# EAGLE library part 4.3INCHRGBLCDMODULE (library waveshare)
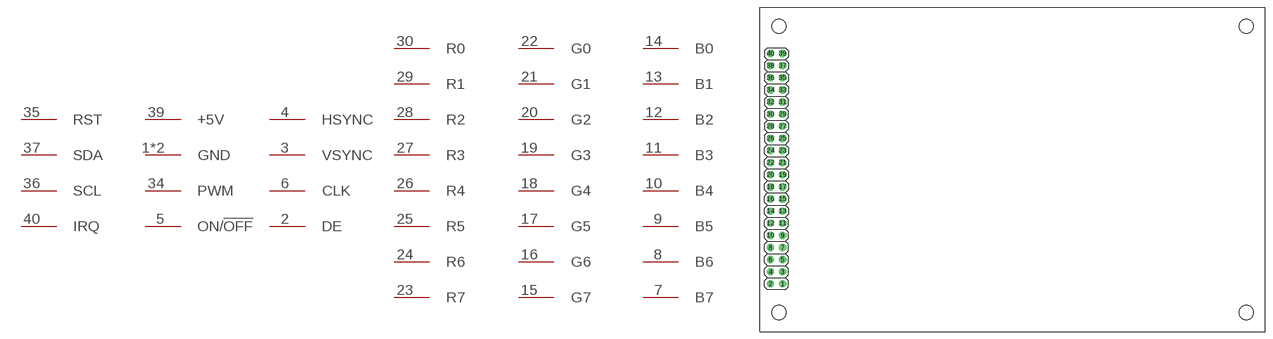
[diagram p2: symbol with the pads of 4.3"LCD; footprint 4.3"LCD]

Designator prefix DISP; gates G$1=DISP_PWR G$2=DISP_CTRL G$3=DISP_BACKLIGHT G$4=DISP_BUS_R G$5=DISP_BUS_G G$6=DISP_BUS_B G$7=DISP_TOUCH

## 4.3INCHRGBLCDMODULE  [4.3"LCD]
1  G$1:GND
2  G$2:DE
3  G$2:VSYNC
4  G$2:HSYNC
5  G$3:ON/!OFF!
6  G$2:CLK
7  G$6:B7
8  G$6:B6
9  G$6:B5
10  G$6:B4
11  G$6:B3
12  G$6:B2
13  G$6:B1
14  G$6:B0
15  G$5:G7
16  G$5:G6
17  G$5:G5
18  G$5:G4
19  G$5:G3
20  G$5:G2
21  G$5:G1
22  G$5:G0
23  G$4:R7
24  G$4:R6
25  G$4:R5
26  G$4:R4
27  G$4:R3
28  G$4:R2
29  G$4:R1
30  G$4:R0
33  G$1:GND
34  G$3:PWM
35  G$7:RST
36  G$7:SCL
37  G$7:SDA
39  G$1:+5V
40  G$7:IRQ

## Footprint 4.3"LCD (pad centres in mm)
drill 1.016 octagon: 1 4.27,10; 2 1.73,10; 3 4.27,12.54; 4 1.73,12.54; 5 4.27,15.08; 6 1.73,15.08; 7 4.27,17.62; 8 1.73,17.62; 9 4.27,20.16; 10 1.73,20.16; 11 4.27,22.7; 12 1.73,22.7; 13 4.27,25.24; 14 1.73,25.24; 15 4.27,27.78; 16 1.73,27.78; 17 4.27,30.32; 18 1.73,30.32; 19 4.27,32.86; 20 1.73,32.86; 21 4.27,35.4; 22 1.73,35.4; 23 4.27,37.94; 24 1.73,37.94; 25 4.27,40.48; 26 1.73,40.48; 27 4.27,43.02; 28 1.73,43.02; 29 4.27,45.56; 30 1.73,45.56; 31 4.27,48.1; 32 1.73,48.1; 33 4.27,50.64; 34 1.73,50.64; 35 4.27,53.18; 36 1.73,53.18; 37 4.27,55.72; 38 1.73,55.72; 39 4.27,58.26; 40 1.73,58.26
hole 3 at 3.5,4
hole 3 at 101.5,4
hole 3 at 101.5,64
hole 3 at 3.5,64